# Altium footprint library Demo.PcbLib: 19 footprints (part 1 of 2)
Each footprint in its own frame and in the unit in brackets; x right, y up, seen from the top. Pads: shape width x height; smd on the part's side, far side on the other; paste and mask are expansions set on the pad; w line width, h text height; cw(c..) or ccw(c..) is an arc to the next point about the centre after c.
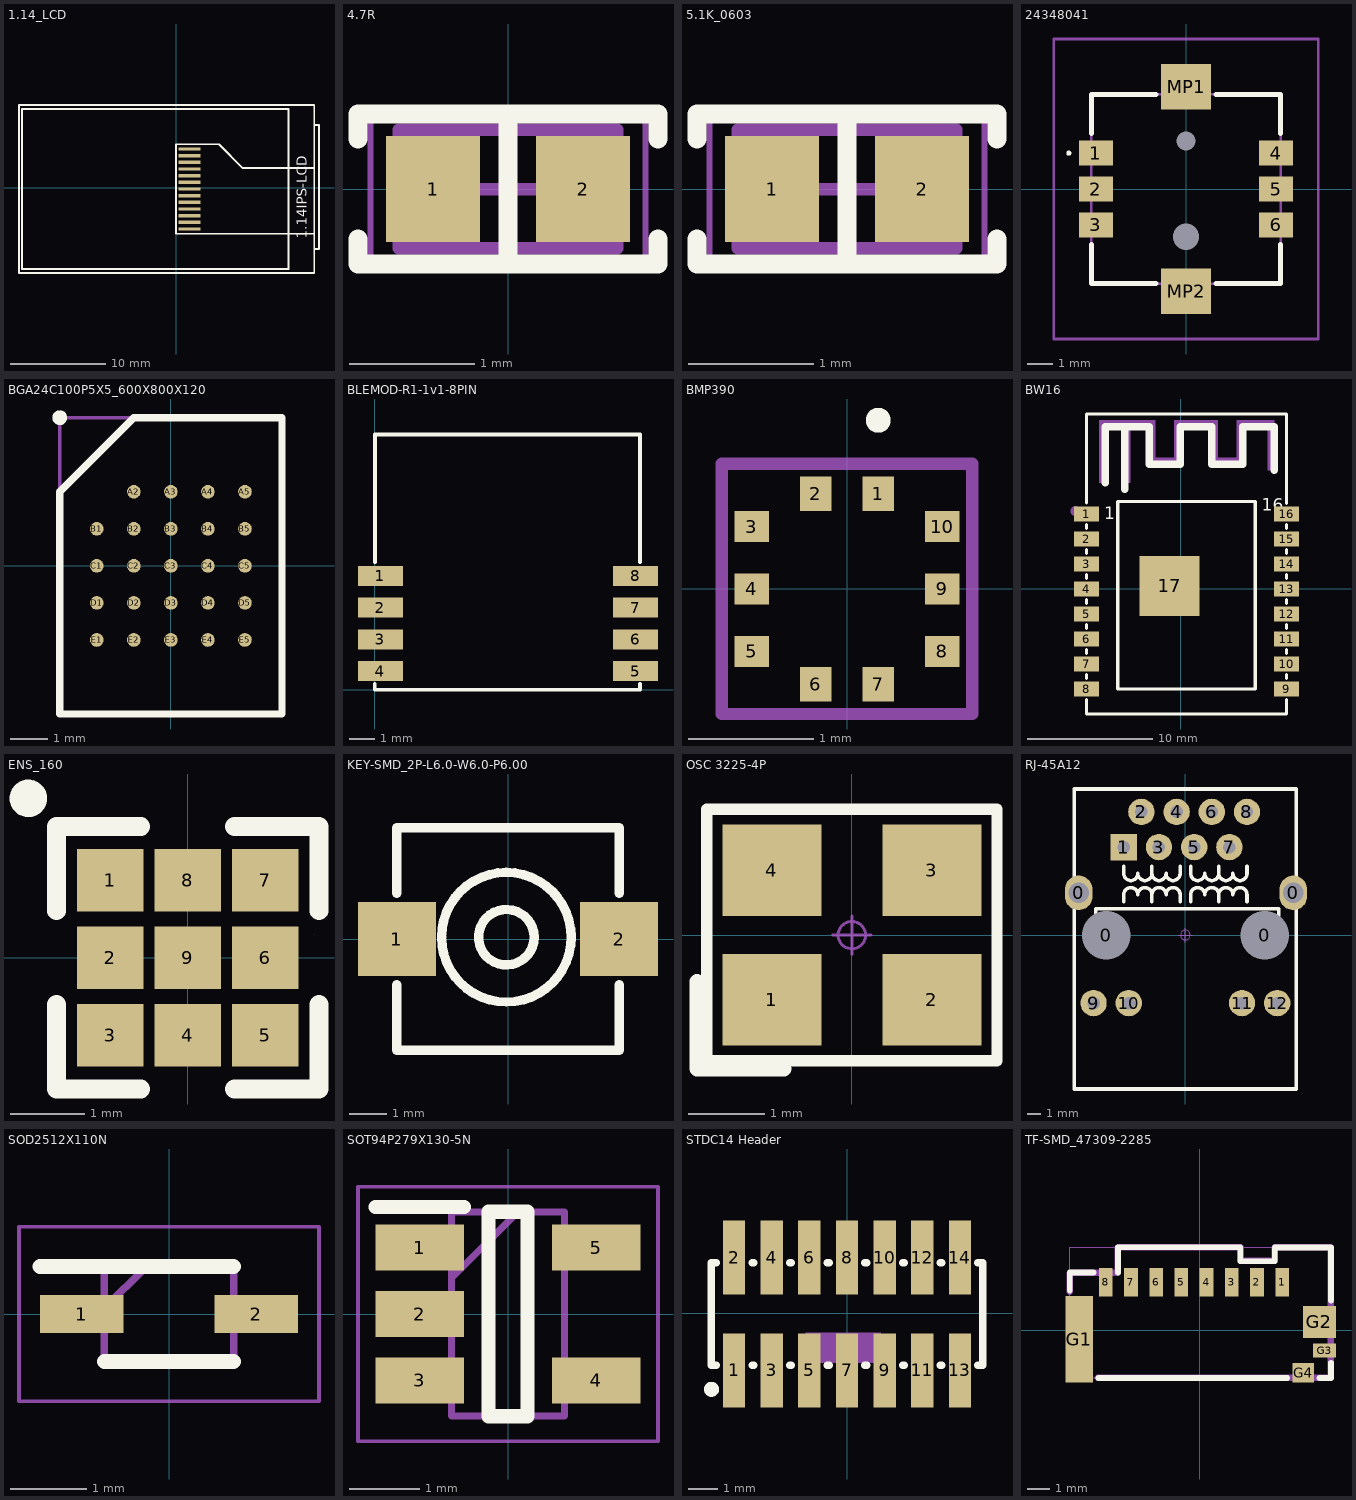
[diagram p0: the footprints below, top view; thin cyan lines are the x and y axes]

## 1.14_LCD [mm]
pads (13):
  rect 2.3x0.35 smd paste+0 mask+0.102: 1(1.365,4.085) 2(1.365,3.385) 3(1.365,2.685) 4(1.365,1.985) 5(1.365,1.285) 6(1.365,0.584) 7(1.365,-0.115) 8(1.365,-0.815) 9(1.365,-1.515) 10(1.365,-2.215) 11(1.365,-2.915) 12(1.365,-3.615) 13(1.365,-4.315)
Top Overlay:
  lines w0.203: 14.465,-6.415 14.965,-6.415 14.965,6.585 14.465,6.585 ; -16.535,-8.915 14.465,-8.915 14.465,8.685 -16.535,8.685 -16.535,-8.915 ; -16.245,-8.515 11.765,-8.515 11.775,-8.505 11.775,8.285 -16.235,8.285 -16.235,-8.505 -16.245,-8.515 ; -0.035,-4.815 -0.035,4.585 4.465,4.585 6.965,2.085 14.465,2.085 14.465,-4.815 -0.035,-4.815
  text "1.14IPS-LCD" at 13.665,-5.315 h1.02
Mechanical 15:
  lines w0.003: -0.278,0.011 -0.277,0.012
3D body "1.14 TFT IPS - 13P - Flat Flush Mount.stp": height 1.52, standoff -0.03, extent -16.548,-8.915 15.113,8.636

## 4.7R [mm]
pads (2):
  rect 0.75x0.85 smd: 1(-0.6,0) 2(0.6,0)
Top Overlay:
  lines w0.15: -1.2,-0.4 -1.2,-0.6 1.2,-0.6 1.2,-0.4 ; -1.2,0.4 -1.2,0.6 1.2,0.6 1.2,0.4 ; 0,-0.6 0,0.6
Mechanical 13:
  lines w0.1: -0.875,-0.475 0.875,-0.475 0.875,0.475 -0.875,0.475 -0.875,-0.475
Mechanical 15:
  lines w0.05: -1.1,-0.6 1.1,-0.6 1.1,0.6 -1.1,0.6 -1.1,-0.6
  lines w0.1: -0.475,0 0.475,0 ; 0,-0.475 0,0.475
3D body "0603 resistor.STEP": height 0.45, standoff 0, extent -0.8,-0.4 0.8,0.4

## 5.1K_0603 [mm]
pads (2):
  rect 0.75x0.85 smd: 1(-2.886,0) 2(-1.686,0)
Top Overlay:
  lines w0.15: -3.486,-0.4 -3.486,-0.6 -1.086,-0.6 -1.086,-0.4 ; -3.486,0.4 -3.486,0.6 -1.086,0.6 -1.086,0.4 ; -2.286,-0.6 -2.286,0.6
Mechanical 13:
  lines w0.1: -3.161,-0.475 -3.161,0.475 -1.411,0.475 -1.411,-0.475 -3.161,-0.475
Mechanical 15:
  lines w0.05: -3.386,-0.6 -3.386,0.6 -1.186,0.6 -1.186,-0.6 -3.386,-0.6
  lines w0.1: -2.761,0 -1.811,0 ; -2.286,-0.475 -2.286,0.475
3D body "0603 resistor.STEP": height 0.45, standoff 0, extent -3.086,-0.4 -1.486,0.4

## 24348041 [mm]
pads (10):
  rect 1.35x1 smd: 1(-3.575,1.425) 2(-3.575,0) 3(-3.575,-1.425) 4(3.575,1.425) 5(3.575,0) 6(3.575,-1.425)
  round 0.375 hole 0.75 unplated: MH1(0,1.9)
  round 0.525 hole 1.05 unplated: MH2(0,-1.9)
  rect 2x1.8 smd: MP1(0,4.05) MP2(0,-4.05)
Top Overlay:
  lines w0.1: -4.7,1.425 cw(c-4.65,1.425) -4.6,1.425 cw(c-4.65,1.425) -4.7,1.425
  lines w0.2: -3.75,-2.2 -3.75,-3.75 -1.2,-3.75 ; -3.75,2.2 -3.75,3.75 -1.2,3.75 ; 1.2,-3.75 3.75,-3.75 3.75,-2.2 ; 1.2,3.75 3.75,3.75 3.75,2.2
Mechanical 15:
  lines w0.1: -3.75,-3.75 3.75,-3.75 3.75,3.75 -3.75,3.75 -3.75,-3.75
Mechanical 20:
  lines w0.1: -5.25,-5.95 5.25,-5.95 5.25,5.95 -5.25,5.95 -5.25,-5.95
3D body "2434804-1.stp": height 5.99, standoff -0.51, extent -3.75,-3.75 3.75,3.75

## BGA24C100P5X5_600X800X120 [mm]
pads (24):
  round 0.37 smd: A2(-1,2) A3(0,2) A4(1,2) A5(2,2) B1(-2,1) B2(-1,1) B3(0,1) B4(1,1) B5(2,1) C1(-2,0) C2(-1,0) C3(0,0) C4(1,0) C5(2,0) D1(-2,-1) D2(-1,-1) D3(0,-1) D4(1,-1) D5(2,-1) E1(-2,-2) E2(-1,-2) E3(0,-2) E4(1,-2) E5(2,-2)
Top Overlay:
  circle w0.2: c-3,4 r0.1
  lines w0.2: -3,-4 -3,2 -1,4 3,4 3,-4 -3,-4
Mechanical 15:
  lines w0.1: -3,1.975 -0.975,4 ; -3,-4 -3,4 3,4 3,-4 -3,-4
3D body "IS66WVH8M8BLL-100B1LI-TR.stp": height 1.2, standoff 0, extent -3,-4 3,4

## BLEMOD-R1-1v1-8PIN [mm]
pads (8):
  rect 1.8x0.8 smd: 1(0.225,4.553) 2(0.225,3.283) 3(0.225,2.013) 4(0.225,0.743) 5(10.425,0.743) 6(10.425,2.013) 7(10.425,3.283) 8(10.425,4.553)
Top Overlay:
  lines w0.152: -0.008,0.233 -0.008,0 0,0 10.6,0 10.6,0.233 ; 0,5.108 0,10.215 10.6,10.215 10.6,5.108

## BMP390 [mm]
pads (10):
  rect 0.25x0.275 smd: 1(0.25,0.763) 2(-0.25,0.763) 6(-0.25,-0.763) 7(0.25,-0.763)
  rect 0.275x0.25 smd: 3(-0.762,0.5) 4(-0.762,0) 5(-0.762,-0.5) 8(0.762,-0.5) 9(0.762,0) 10(0.762,0.5)
Top Overlay:
  lines w0.1: 0.25,1.3 ccw(c0.25,1.35) 0.25,1.4 ccw(c0.25,1.35) 0.25,1.3
Mechanical 15:
  lines w0.1: -1,-1 -1,1 1,1 1,-1 -1,-1
3D body "BMP390.stp": height 0.75, standoff 0, extent -1,-1 1,1

## BW16 [mm]
pads (17):
  rect 2x1.2 smd paste+0 mask+0.05: 1(-7.546,5.967) 2(-7.546,3.967) 3(-7.546,1.967) 4(-7.546,-0.033) 5(-7.546,-2.033) 6(-7.546,-4.033) 7(-7.546,-6.033) 8(-7.546,-8.033) 9(8.454,-8.033) 10(8.454,-6.033) 11(8.454,-4.033) 12(8.454,-2.033) 13(8.454,-0.033) 14(8.454,1.967) 15(8.454,3.967) 16(8.454,5.967)
  rect 4.8x4.8 smd paste+0 mask+0.05: 17(-0.896,0.217)
Top Overlay:
  lines w0.254: -7.547,6.841 -7.546,13.89 ; -7.546,-8.864 -7.546,-9.533 -7.546,-10.033 8.454,-10.033 8.454,-9.533 8.454,-8.864 ; -7.546,-7.202 -7.546,-6.864 ; -7.546,-5.202 -7.546,-4.864 ; -7.546,-3.202 -7.546,-2.864 ; -7.546,-1.202 -7.546,-0.864 ; -7.546,0.798 -7.546,1.136 ; -7.546,2.798 -7.546,3.136 ; -7.546,4.798 -7.546,5.136 ; -7.546,13.967 8.454,13.967 ; 8.454,-7.202 8.454,-6.864 ; 8.454,-5.202 8.454,-4.864 ; 8.454,-3.202 8.454,-2.864 ; 8.454,-1.202 8.454,-0.864 ; 8.454,0.798 8.454,1.136 ; 8.454,2.798 8.454,3.136 ; 8.454,4.798 8.454,5.136 ; 8.454,6.798 8.456,13.968 ; -5.046,-8.033 -5.046,6.967 5.954,6.967 5.954,-8.033 -5.046,-8.033
  lines w0.6: -6.046,8.468 -6.046,12.966 -2.546,12.966 -2.546,9.967 -0.046,9.967 -0.046,12.966 2.453,12.966 2.453,9.967 4.955,9.967 4.955,12.966 7.454,12.967 7.454,9.467 ; -4.476,7.967 -4.476,12.966
  text "16" at 6.454,6.232 h1
  text "1" at -6.147,5.537 h1
Mechanical 15:
  circle w0.4: c-8.436,6.206 r0.2
  region: 7.454,12.967 7.454,9.467 6.954,9.467 6.954,12.967
  region: 4.954,13.467 7.454,13.467 7.454,12.967 4.954,12.967
  region: 4.954,10.467 4.954,13.467 4.454,13.467 4.454,10.467
  region: 2.954,9.967 4.954,9.967 4.954,10.467 2.954,10.467
  region: 2.954,12.967 2.954,9.967 2.454,9.967 2.454,12.967
  region: -0.046,13.467 2.954,13.467 2.954,12.967 -0.046,12.967
  region: -0.046,10.467 -0.046,13.467 -0.546,13.467 -0.546,10.467
  region: -0.046,10.467 -0.046,9.967 -2.046,9.967 -2.046,10.467
  region: -2.046,12.967 -2.046,9.967 -2.546,9.967 -2.546,12.967
  region: -4.046,13.467 -2.046,13.467 -2.046,12.967 -4.046,12.967
  region: -4.546,13.467 -4.046,13.467 -4.046,8.467 -4.546,8.467
  region: -6.046,13.467 -4.546,13.467 -4.546,12.967 -6.046,12.967
  region: -6.546,8.467 -6.546,13.467 -6.046,13.467 -6.046,8.467
3D body "BW16 v6.step": height 3.03, standoff -0.03, extent -7.619,-10.095 8.381,13.905

## ENS_160 [mm]
pads (9):
  rect 0.9x0.85 smd paste+0 mask+0.05: 1(-1.05,1.05) 2(-1.05,0) 3(-1.05,-1.05) 4(0,-1.05) 5(1.05,-1.05) 6(1.05,0) 7(1.05,1.05) 8(0,1.05) 9(0,0)
Top Overlay:
  circle w0.254: c-2.159,2.159 r0.127
  lines w0.254: -1.778,-0.635 -1.778,-1.778 -0.635,-1.778 ; -1.778,0.635 -1.778,1.778 -0.635,1.778 ; 0.635,-1.778 1.778,-1.778 1.778,-0.635 ; 0.635,1.778 1.778,1.778 1.778,0.635
Mechanical 15:
  lines w0.003: 1.714,0.317 1.715,0.318
3D body "ScioSense_ENS160.STEP": height 0.75, standoff -0.03, extent -1.5,-1.5 1.5,1.5

## KEY-SMD_2P-L6.0-W6.0-P6.00 [mm]
pads (2):
  rect 2.1x2 smd paste+0 mask+0.051: 1(-3,0) 2(3,0)
Top Overlay:
  circle w0.254: c-0.044,0.048 r1.75
  circle w0.254: c-0.044,0.048 r0.749
  lines w0.254: -3,-1.231 -3,-3 3,-3 3,-1.231 ; -3,1.231 -3,3 3,3 3,1.231
3D body "SKPMAP.STEP": height 5, standoff 0, extent -3.3,-2.97 3.3,2.97

## OSC 3225-4P [mm] "3.2*2.5*0.7mm(长宽高)"
pads (4):
  rect 1.3x1.2 smd: 1(-1.05,-0.85) 2(1.05,-0.85) 3(1.05,0.85) 4(-1.05,0.85)
Top Overlay:
  lines w0.15: -1.905,-1.651 -1.905,1.651 1.905,1.651 1.905,-1.651 -1.905,-1.651
  lines w0.2: -2.032,-1.753 -0.889,-1.753 ; -2.032,-1.727 -2.032,-0.61
Mechanical 15:
  circle w0.04: c0,0 r0.18
  lines w0.04: -0.254,0 0.254,0 ; 0,-0.254 0,0.254
3D body "OSC 3225-4.STEP": height 0.7, standoff -0.02, extent -1.6,-1.25 1.6,1.25

## RJ-45A12 [mm] "网线接口"
pads (16):
  oval 2x2.5 hole 1.5: 0(-7.695,3.05) 0(7.785,3.05)
  round 3.302 hole 3.5: 0(-5.715,0) 0(5.715,0)
  rect 1.905x1.905 hole 0.9: 1(-4.445,6.35)
  round 1.905 hole 0.9: 2(-3.175,8.89) 3(-1.905,6.35) 4(-0.635,8.89) 5(0.635,6.35) 6(1.905,8.89) 7(3.175,6.35) 8(4.445,8.89) 9(-6.625,-4.9) 10(-4.085,-4.9) 11(4.085,-4.9) 12(6.625,-4.9)
Top Overlay:
  lines w0.254: -6.477,1.397 -6.477,1.905 6.731,1.905 6.731,1.397 ; -4.445,2.413 -4.445,2.921 cw(c-3.937,2.921) -3.429,2.921 cw(c-2.921,2.921) -2.413,2.921 ; -4.445,4.953 -4.445,4.445 ccw(c-3.937,4.445) -3.429,4.445 ccw(c-2.921,4.445) -2.413,4.445 ; -2.413,2.413 -2.413,2.921 ; -2.413,4.953 -2.413,4.445 ; -0.381,2.413 -0.381,2.921 ccw(c-0.889,2.921) -1.397,2.921 ccw(c-1.905,2.921) -2.413,2.921 ; -0.381,4.953 -0.381,4.445 cw(c-0.889,4.445) -1.397,4.445 cw(c-1.905,4.445) -2.413,4.445 ; 0.381,2.413 0.381,2.921 cw(c0.889,2.921) 1.397,2.921 cw(c1.905,2.921) 2.413,2.921 ; 0.381,4.953 0.381,4.445 ccw(c0.889,4.445) 1.397,4.445 ccw(c1.905,4.445) 2.413,4.445 ; 2.413,2.413 2.413,2.921 ; 2.413,4.953 2.413,4.445 ; 4.445,2.413 4.445,2.921 ccw(c3.937,2.921) 3.429,2.921 ccw(c2.921,2.921) 2.413,2.921 ; 4.445,4.953 4.445,4.445 cw(c3.937,4.445) 3.429,4.445 cw(c2.921,4.445) 2.413,4.445 ; -8.001,-11.1 -8.001,10.541 8.001,10.541 8.001,-11.1 -8.001,-11.1
Mechanical 15:
  circle w0.05: c0,0 r0.35
  lines w0.05: -0.5,0 0.5,0 ; 0,-0.5 0,0.5
3D body "HanRun-HR911105A.STEP": height 1.5, standoff -15, extent -7.971,-10.926 7.909,10.474

## SOD2512X110N [mm]
pads (2):
  rect 1.1x0.5 smd: 1(-1.15,0) 2(1.15,0)
Top Overlay:
  lines w0.2: -1.7,0.625 0.85,0.625 ; -0.85,-0.625 0.85,-0.625
Mechanical 15:
  lines w0.1: -0.85,0.075 -0.3,0.625 ; -0.85,-0.625 -0.85,0.625 0.85,0.625 0.85,-0.625 -0.85,-0.625
Mechanical 20:
  lines w0.05: -1.975,-1.15 -1.975,1.15 1.975,1.15 1.975,-1.15 -1.975,-1.15
3D body "PESD3V3L1BA,115.stp": height 0.91, standoff -0.02, extent -1.244,-0.615 1.244,0.635

## SOT94P279X130-5N [mm]
pads (5):
  rect 1.25x0.65 smd: 1(-1.25,0.94) 2(-1.25,0) 3(-1.25,-0.94) 4(1.25,-0.94) 5(1.25,0.94)
Top Overlay:
  lines w0.2: -1.875,1.514 -0.625,1.514 ; -0.275,-1.448 -0.275,1.448 0.275,1.448 0.275,-1.448 -0.275,-1.448
Mechanical 15:
  lines w0.1: -0.8,0.508 0.14,1.448 ; -0.8,-1.448 -0.8,1.448 0.8,1.448 0.8,-1.448 -0.8,-1.448
Mechanical 20:
  lines w0.05: -2.125,-1.8 -2.125,1.8 2.125,1.8 2.125,-1.8 -2.125,-1.8
3D body "RT9193-18GB.stp": height 1.3, standoff 0, extent -1.397,-1.448 1.397,1.448

## STDC14 Header [mm]
pads (14):
  rect 0.75x2.5 smd paste+0 mask+0.05: 1(-3.81,-1.925) 2(-3.81,1.875) 3(-2.54,-1.925) 4(-2.54,1.875) 5(-1.27,-1.925) 6(-1.27,1.875) 7(0,-1.925) 8(0,1.875) 9(1.27,-1.925) 10(1.27,1.875) 11(2.54,-1.925) 12(2.54,1.875) 13(3.81,-1.925) 14(3.81,1.875)
Top Overlay:
  circle w0.254: c-4.572,-2.565 r0.127
  lines w0.254: -4.416,-1.75 -4.572,-1.75 -4.572,1.7 -4.416,1.7 ; -3.204,-1.75 -3.146,-1.75 ; -3.204,1.7 -3.146,1.7 ; -1.934,-1.75 -1.876,-1.75 ; -1.934,1.7 -1.876,1.7 ; -0.664,-1.75 -0.606,-1.75 ; -0.664,1.7 -0.606,1.7 ; 0.606,-1.75 0.664,-1.75 ; 0.606,1.7 0.664,1.7 ; 1.876,-1.75 1.934,-1.75 ; 1.876,1.7 1.934,1.7 ; 3.146,-1.75 3.204,-1.75 ; 3.146,1.7 3.204,1.7 ; 4.416,-1.75 4.572,-1.75 4.572,1.7 4.416,1.7
Mechanical 15:
  region: -1.397,-0.66 1.143,-0.66 1.143,-1.676 -1.397,-1.676 -1.397,-1.295

## TF-SMD_47309-2285 [mm]
pads (12):
  rect 0.6x1.25 smd paste+0 mask+0.05: 1(3.608,2.089) 2(2.508,2.089) 3(1.408,2.089) 4(0.308,2.089) 5(-0.792,2.089) 6(-1.892,2.089) 7(-2.992,2.089) 8(-4.092,2.089)
  rect 1.2x3.79 smd paste+0 mask+0.05: G1(-5.242,-0.391)
  rect 1.45x1.4 smd paste+0 mask+0.05: G2(5.233,0.364)
  rect 1x0.6 smd paste+0 mask+0.05: G3(5.458,-0.886)
  rect 0.95x0.85 smd paste+0 mask+0.05: G4(4.533,-1.861)
Top Overlay:
  lines w0.254: -5.662,1.735 -5.662,2.514 -4.623,2.514 ; -4.411,-2.086 3.827,-2.086 ; -3.561,2.514 -3.562,2.514 -3.562,3.624 1.777,3.624 ; 1.777,3.614 1.777,3.014 3.277,3.014 ; 3.281,3.014 3.281,3.413 3.281,3.613 5.733,3.613 5.733,1.295 ; 5.239,-2.086 5.733,-2.086 5.733,-1.417
Mechanical 6:
  region: -5.789,1.684 -5.789,2.504 -5.789,2.529 -5.77,2.576 -5.734,2.612 -5.687,2.631 -5.662,2.631 -3.689,2.631 -3.689,3.624 -3.689,3.649 -3.67,3.696 -3.634,3.732 -3.587,3.751 -3.562,3.751 1.798,3.751 1.823,3.751 1.87,3.732 1.906,3.696 1.925,3.649 1.925,3.624 1.925,3.161 3.161,3.161 3.161,3.624 3.161,3.649 3.18,3.696 3.216,3.732 3.263,3.751 3.288,3.751 5.728,3.751 5.753,3.751 5.8,3.732 5.836,3.696 5.855,3.649 5.855,3.624 5.855,-2.076 5.855,-2.101 5.836,-2.148 5.8,-2.183 5.753,-2.203 5.728,-2.203 -4.442,-2.203 -4.495,-2.203 -4.569,-2.128 -4.569,-2.023 -4.495,-1.949 -4.442,-1.949 5.601,-1.949 5.601,3.497 3.415,3.497 3.415,3.034 3.415,3.009 3.396,2.962 3.36,2.927 3.313,2.907 3.288,2.907 1.798,2.907 1.773,2.907 1.726,2.927 1.69,2.962 1.671,3.009 1.671,3.034 1.671,3.497 -3.435,3.497 -3.435,2.504 -3.435,2.479 -3.454,2.432 -3.49,2.397 -3.537,2.377 -3.562,2.377 -5.535,2.377 -5.535,1.684 -5.535,1.632 -5.609,1.557 -5.715,1.557 -5.789,1.632
Mechanical 15:
  region: -3.892,2.539 -3.892,1.889 -4.292,1.889 -4.292,2.539
  region: -2.792,2.539 -2.792,1.889 -3.192,1.889 -3.192,2.539
  region: -1.692,2.539 -1.692,1.889 -2.092,1.889 -2.092,2.539
  region: -0.592,2.539 -0.592,1.889 -0.992,1.889 -0.992,2.539
  region: 0.508,2.539 0.508,1.889 0.108,1.889 0.108,2.539
  region: 1.608,2.539 1.608,1.889 1.208,1.889 1.208,2.539
  region: 2.708,2.539 2.708,1.889 2.308,1.889 2.308,2.539
  region: 3.808,2.539 3.808,1.889 3.408,1.889 3.408,2.539
  region: -5.667,0.744 -4.867,0.744 -4.867,-1.856 -5.667,-1.856
  region: 5.733,-0.151 4.733,-0.151 4.733,0.849 5.733,0.849
  region: 5.058,-0.736 5.733,-0.736 5.733,-1.036 5.058,-1.036
  region: 4.153,-1.636 4.953,-1.636 4.953,-2.086 4.153,-2.086
  region: 5.793,3.614 5.793,3.639 5.758,3.674 5.708,3.674 5.673,3.639 5.673,3.614 5.673,3.589 5.708,3.554 5.758,3.554 5.793,3.589
  lines w0.051: -5.667,-2.086 5.733,-2.086 5.733,3.614 -5.667,3.614 -5.667,-2.086
3D body "47309-2651.stp": height 2.64, standoff -0.01, extent -5.654,-1.919 5.746,3.581